# Altium schematic symbol library Connectors.SchLib: 16 symbols
Pins are listed as number, name and electrical type; pins without a type are passive.

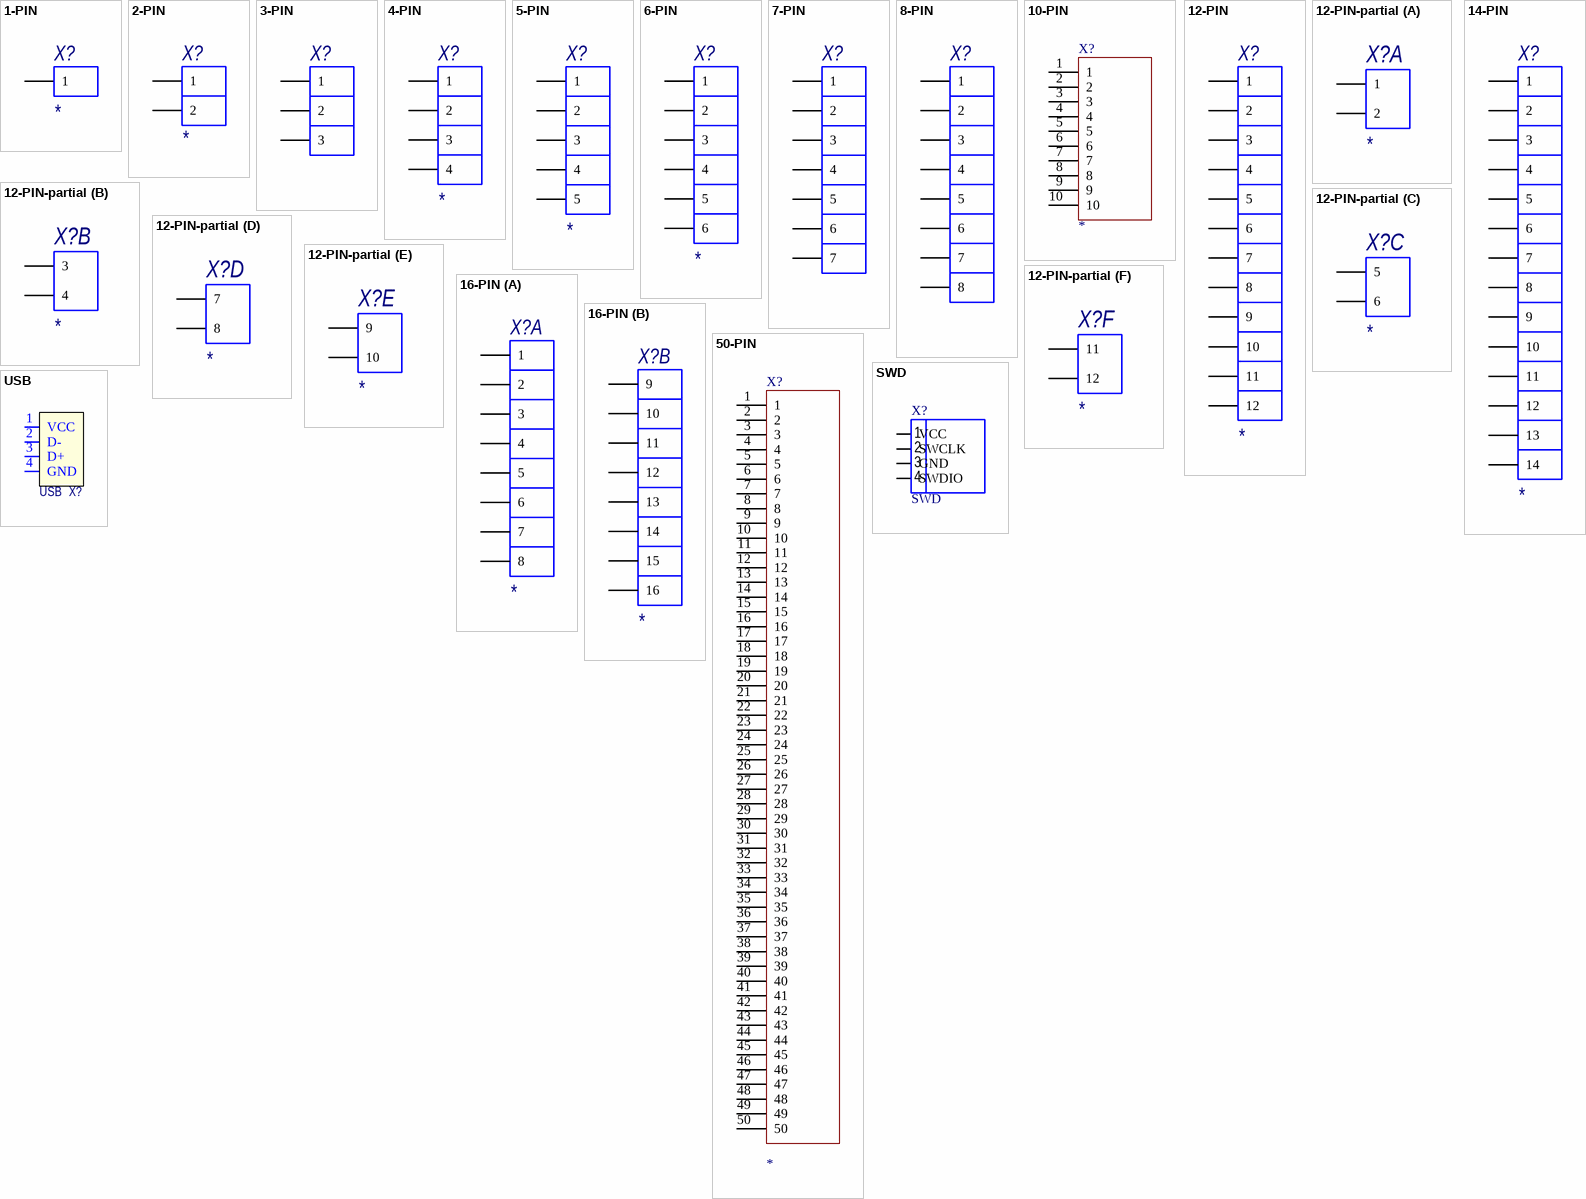
[diagram p0: symbols 1-PIN to USB]

## 1-PIN
designator X?
Other: *; ComponentLink1Description: New link; ComponentLink1URL: *; Name: *
footprint PLS-1
footprint PLS-terminal-smd (PLS 2.54mm pitch)
footprint PLS-terminal-smd-WOB (PLS 2.54mm pitch)
footprint PLS-1 - WOB (PLS 2.54mm pitch)
pins: 1

## 2-PIN
designator X?
Other: *; Name: *
footprint NX1001-02SMS
footprint DG-306-5.0-02P
footprint NX2500-02SMS
footprint DG350-3.5-02
footprint DS1066-02M (step 2mm)
footprint PLS-2
footprint DG308-02 (2.54 mm)
footprint DG301-5.0-02P (5mm pitch)
footprint PLS2-2-W/OB
pins: 1, 2

## 3-PIN
designator X?
Pins: 3
footprint NX1001-03SMS
footprint MS-108 (2.5mm audio jack)
footprint PLS-3
footprint PLS2.54-3R
footprint PLS2-3
pins: 1, 2, 3

## 4-PIN
designator X?
Name: *; Value: *
footprint NX1001-04SMS
footprint DG350-3.5-04
footprint DS1066-04M (step 2mm)
footprint PLS-4 (PLS 2.54mm pitch)
footprint PLD-4 (PLD 2.54mm pitch)
footprint PLS-4-WB (PLS 2.54mm pitch)
footprint PLS2-4-W/OB (PLS 2mm pitch)
footprint PLD-4 - W/O Body (PLD 2.54mm pitch)
pins: 1, 2, 3, 4

## 5-PIN
designator X?
Name: *; Value: *
footprint DS1066-05M (step 2mm)
footprint PLS-5 (PLS 2.54mm pitch)
pins: 1, 2, 3, 4, 5

## 6-PIN
designator X?
Name: *; Value: *
footprint NX1001-06SMS
footprint NX2500-06SMS
footprint DS1066-06M (step 2mm)
footprint BH-06 (PLS 2.54mm pitch)
pins: 1, 2, 3, 4, 5, 6

## 7-PIN
designator X?
footprint PLS-7 (PLS 2.54mm pitch)
pins: 1, 2, 3, 4, 5, 6, 7

## 8-PIN
designator X?
Pins: 8
footprint NX2500-08SMS
footprint NX1001-08SMS
footprint PLS-8 (PLS 2.54mm pitch)
footprint BH-08 (PLS 2.54mm pitch)
pins: 1, 2, 3, 4, 5, 6, 7, 8

## 10-PIN
designator X?
Name: *
footprint PBD2.54-10
footprint PLD2.54-10
footprint PLD2-10R
footprint PLD2-10
pins: 1, 2, 3, 4, 5, 6, 7, 8, 9, 10

## 12-PIN
designator X?
Name: *; Value: *; Body: *
footprint MF-2x6 МА
footprint PLD2-12R
footprint PLS2-12
footprint PBS2-12
pins: 1, 2, 3, 4, 5, 6, 7, 8, 9, 10, 11, 12

## 12-PIN-partial
designator X?
Name: *; Value: *; Body: *
footprint DG301-5.0-12P (5mm pitch;  6xDG301-5.0-02P)
part A pins: 1, 2
part B pins: 3, 4
part C pins: 5, 6
part D pins: 7, 8
part E pins: 9, 10
part F pins: 11, 12

## 14-PIN
designator X?
Name: *; Body: *; Value: *
footprint PBD2.54-14
footprint PLD2-14R
footprint PLS2-14
footprint PBS2-14
pins: 1, 2, 3, 4, 5, 6, 7, 8, 9, 10, 11, 12, 13, 14

## 16-PIN
designator X?
Name: *
footprint PBD2.54-16 (2.54 mm)
footprint PLD2.54-16 (2.54 mm)
footprint MF-2x8
footprint PLD2-16R
footprint PLD2-16
part A pins: 1, 2, 3, 4, 5, 6, 7, 8
part B pins: 9, 10, 11, 12, 13, 14, 15, 16

## 50-PIN
designator X?
Name: *
footprint BH2-50
pins: 1, 2, 3, 4, 5, 6, 7, 8, 9, 10, 11, 12, 13, 14, 15, 16, 17, 18, 19, 20, 21, 22, 23, 24, 25, 26, 27, 28, 29, 30, 31, 32, 33, 34, 35, 36, 37, 38, 39, 40, 41, 42, 43, 44, 45, 46, 47, 48, 49, 50

## SWD
designator X?
footprint SWD
footprint SWD_horizontal
footprint PLS2-4R
pins: 1 VCC, 2 SWCLK, 3 GND, 4 SWDIO

## USB
designator X?
footprint mini_usb
pins: 1 VCC (power), 2 D- (power), 3 D+ (power), 4 GND (power)